# EAGLE library part REF5025 (library Ian)
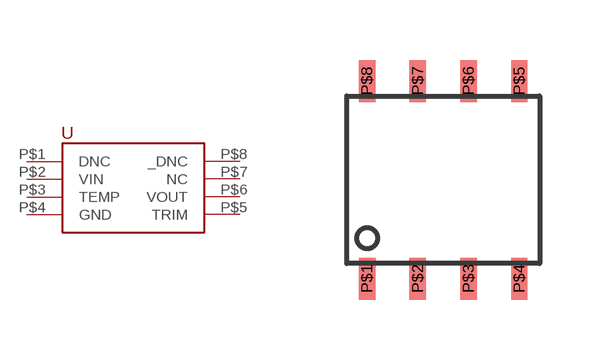
[diagram p0: symbol with the pads of SOIC-8; footprint SOIC-8]

Designator prefix -

## REF5025  [SOIC-8]
P$1  DNC  nc
P$2  VIN  sup
P$3  TEMP  out
P$4  GND  sup
P$5  TRIM
P$6  VOUT  pwr
P$7  NC  nc
P$8  _DNC  nc

## Footprint SOIC-8 (pad centres in mm)
smd 0.41 x 1.05: P$1 0,0; P$2 1.27,0; P$3 2.54,0; P$4 3.81,0; P$5 3.81,4.95; P$6 2.54,4.95; P$7 1.27,4.95; P$8 0,4.95